# Altium footprint library Con RF Coaxial.PcbLib: 8 footprints
Each footprint in its own frame and in the unit in brackets; x right, y up, seen from the top. Pads: shape width x height; smd on the part's side, far side on the other; paste and mask are expansions set on the pad; w line width, h text height; cw(c..) or ccw(c..) is an arc to the next point about the centre after c.
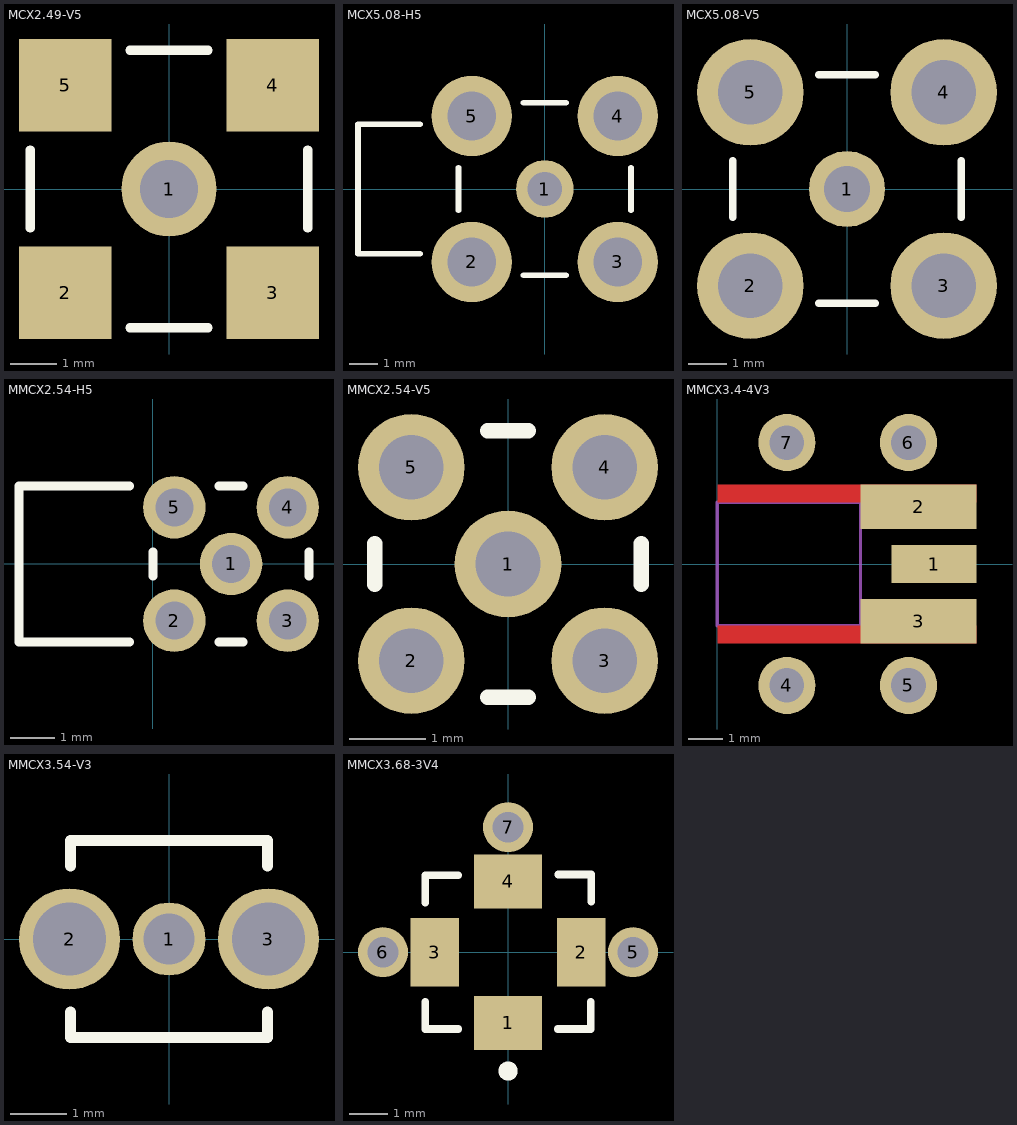
[diagram p0: the footprints below, top view; thin cyan lines are the x and y axes]

## MCX2.49-V5 [mm] "Connector; RF Coaxial, MCX, SM; 5 Position; Vertical"
height 6.35
pads (5):
  round 2.05 hole 1.25: 1(0,0)
  rect 2x2 smd: 2(-2.245,-2.245) 3(2.245,-2.245) 4(2.245,2.245) 5(-2.245,2.245)
Top Overlay:
  lines w0.2: -3,-0.845 -3,0.845 ; -0.845,-3 0.845,-3 ; -0.845,3 0.845,3 ; 3,-0.845 3,0.845

## MCX5.08-H5 [mm] "Connector; RF Coaxial, MCX, Thru-Hole; 5 Position; Right Angle"
height 5.85
pads (5):
  round 2 hole 1.2: 1(0,0)
  round 2.8 hole 1.7: 2(-2.54,-2.54) 3(2.54,-2.54) 4(2.54,2.54) 5(-2.54,2.54)
Top Overlay:
  lines w0.2: -4.34,-2.25 -6.5,-2.25 -6.5,2.25 -4.34,2.25 ; -3,-0.74 -3,0.74 ; -0.74,-3 0.74,-3 ; -0.74,3 0.74,3 ; 3,-0.74 3,0.74

## MCX5.08-V5 [mm] "Connector; RF Coaxial, MCX, Thru-Hole; 5 Position; Vertical"
height 5.59
pads (5):
  round 2 hole 1.2: 1(0,0)
  round 2.8 hole 1.7: 2(-2.54,-2.54) 3(2.54,-2.54) 4(2.54,2.54) 5(-2.54,2.54)
Top Overlay:
  lines w0.2: -3,-0.74 -3,0.74 ; -0.74,-3 0.74,-3 ; -0.74,3 0.74,3 ; 3,-0.74 3,0.74

## MMCX2.54-H5 [mm] "Connector; RF Coaxial, MMCX, Thru-Hole; 5 Position; Right Angle"
height 3.8
pads (5):
  round 1.4 hole 0.85: 1(1.75,0) 2(0.48,-1.27) 3(3.02,-1.27) 4(3.02,1.27) 5(0.48,1.27)
Top Overlay:
  lines w0.2: -0.52,-1.75 -3,-1.75 -3,1.75 -0.52,1.75 ; 0,-0.27 0,0.27 ; 1.48,-1.75 2.02,-1.75 ; 1.48,1.75 2.02,1.75 ; 3.5,-0.27 3.5,0.27

## MMCX2.54-V5 [mm] "Connector; RF Coaxial, MMCX, Thru-Hole; 5 Position; Vertical"
height 4.45
pads (5):
  round 1.4 hole 0.85: 1(0,0) 2(-1.27,-1.27) 3(1.27,-1.27) 4(1.27,1.27) 5(-1.27,1.27)
Top Overlay:
  lines w0.2: -1.75,-0.27 -1.75,0.27 ; -0.27,-1.75 0.27,-1.75 ; -0.27,1.75 0.27,1.75 ; 1.75,-0.27 1.75,0.27

## MMCX3.4-4V3 [mm] "Connector; RF Coaxial, MMCX, Thru-Hole; 3 Position; Edgecard"
height 7.24
pads (7):
  rect 2.465x1.09 smd: 1(6.258,0)
  rect 3.355x1.295 smd: 2(5.813,1.653) 3(5.813,-1.653)
  round 1.65 hole 1: 4(2.01,-3.505) 5(5.52,-3.505) 6(5.52,3.505) 7(2.01,3.505)
Top Layer:
  rectangle: 0,1.78 7.49,2.3
  rectangle: 0,-2.3 7.49,-1.78
Mechanical 1:
  lines w0.1: 0,-1.78 4.135,-1.78 4.135,1.78 0,1.78 0,-1.78
  text "PCB Edge" at 0.115,-0.794 h0.1
  text "Assign" at 0.5,0.79 h0.5
  text "Keepout" at 0.5,0.136 h0.5
  text "Area to" at 0.5,-0.515 h0.5
  text "Cut-out" at 0.5,-1.209 h0.5

## MMCX3.54-V3 [mm] "Connector; RF Coaxial, MMCX, Thru-Hole; 3 Position; Vertical"
height 7.24
pads (3):
  round 1.3 hole 0.9: 1(0,0)
  round 1.8 hole 1.3: 2(-1.77,0) 3(1.77,0)
Top Overlay:
  lines w0.2: -1.753,-1.3 -1.753,-1.753 1.753,-1.753 1.753,-1.3 ; -1.753,1.3 -1.753,1.753 1.753,1.753 1.753,1.3

## MMCX3.68-3V4 [mm] "Connector; RF Coaxial, MMCX, SM; 4 Position; Vertical"
height 3.6
pads (7):
  rect 1.78x1.4 smd: 1(0,-1.841) 4(0,1.841)
  rect 1.27x1.78 smd: 2(1.905,0) 3(-1.905,0)
  round 1.3 hole 0.8: 5(3.251,0) 6(-3.251,0) 7(0,3.251)
Top Overlay:
  circle w0.25: c0,-3.092 r0.125
  lines w0.2: -2.15,-1.29 -2.15,-2 -1.29,-2 ; -2.15,1.29 -2.15,2 -1.29,2 ; 1.29,-2 2.15,-2 2.15,-1.29 ; 1.306,2.021 2.166,2.021 2.166,1.311